# Altium footprint library ARM_PCB.PcbLib: 23 footprints (part 1 of 2)
Each footprint in its own frame and in the unit in brackets; x right, y up, seen from the top. Pads: shape width x height; smd on the part's side, far side on the other; paste and mask are expansions set on the pad; w line width, h text height; cw(c..) or ccw(c..) is an arc to the next point about the centre after c.
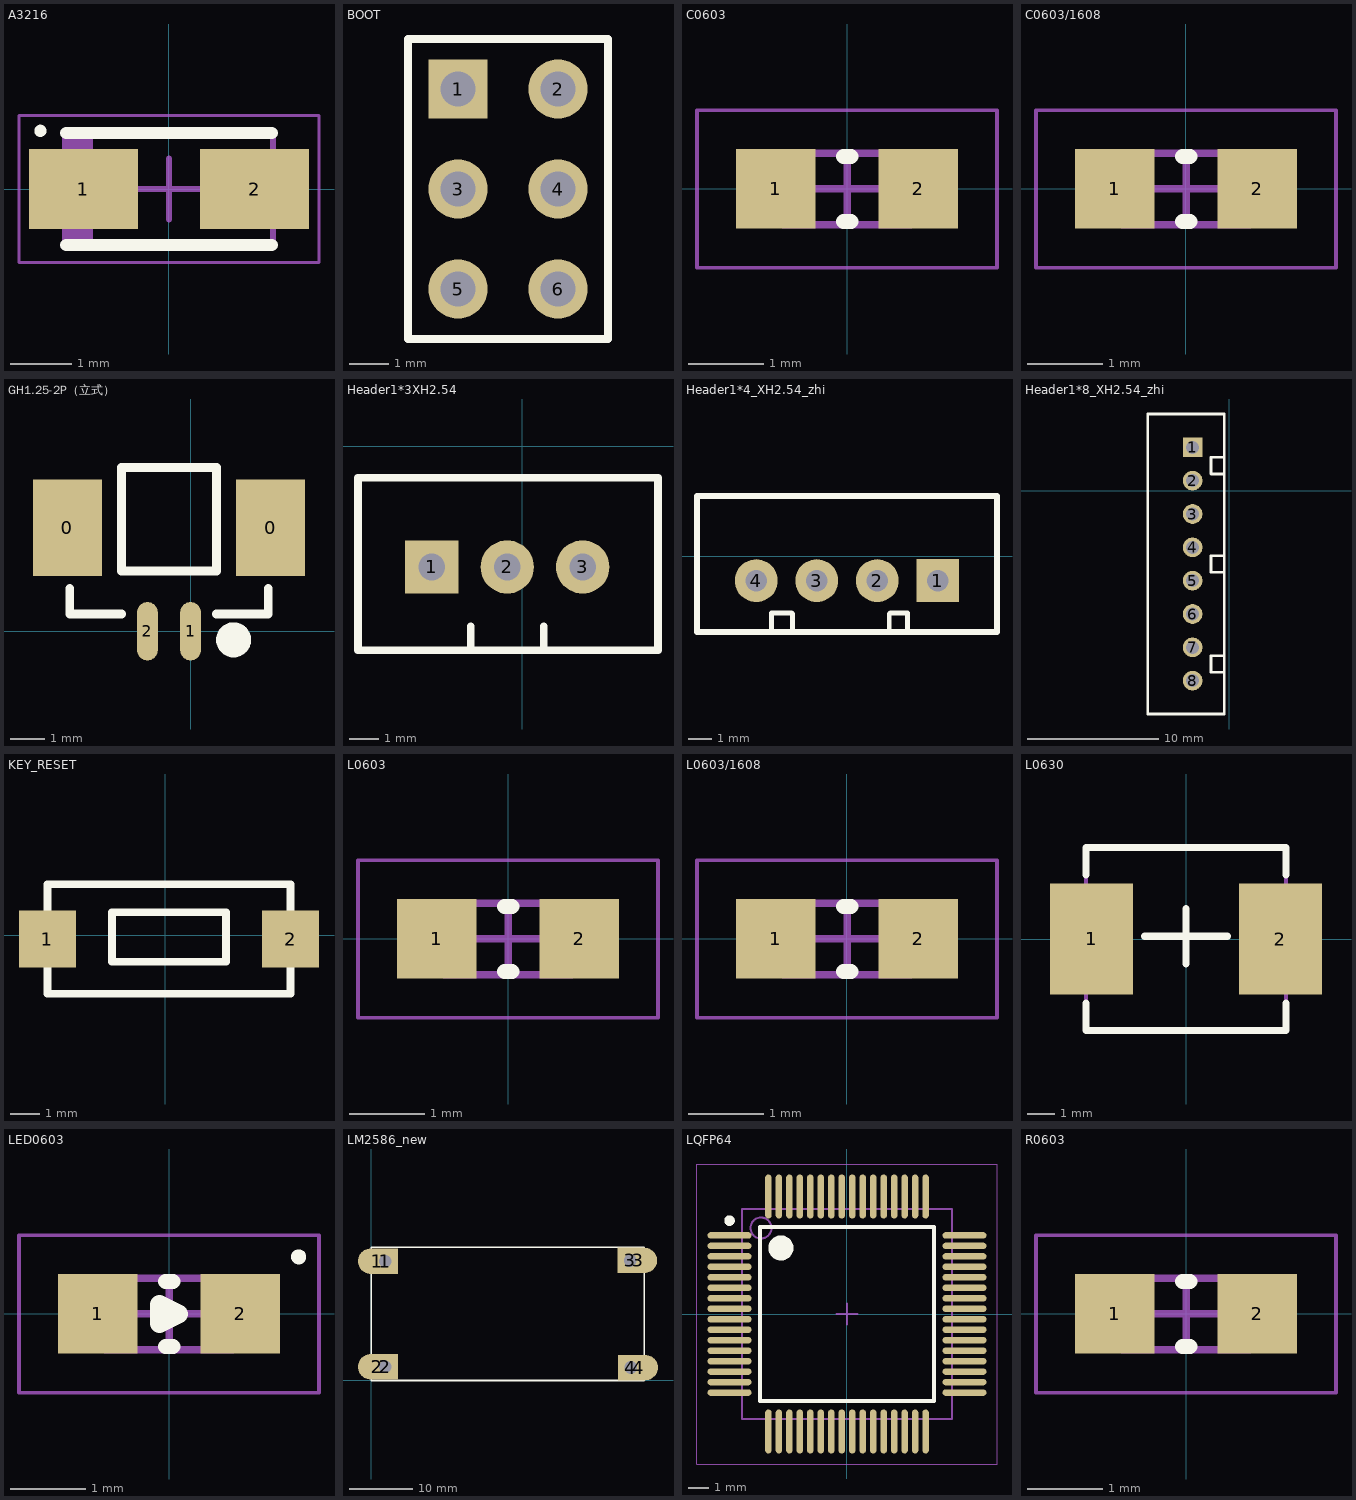
[diagram p0: the footprints below, top view; thin cyan lines are the x and y axes]

## A3216 [mil]
pads (2):
  rect 70x51.18 smd: 1(-55,0) 2(55,0)
Top Overlay:
  circle w3.94: c-82.68,37.4 r1.97
  lines w7.87: -66,-36 66,-36 ; -66,36 66,36
Mechanical 13:
  rectangle: -66.93,-35.43 -48.92,35.43
  lines w3.94: -66.93,-35.43 66.93,-35.43 66.93,35.43 -66.93,35.43 -66.93,-35.43
Mechanical 15:
  lines w1.97: -96.46,-47.24 96.46,-47.24 96.46,47.24 -96.46,47.24 -96.46,-47.24
  lines w3.94: -19.68,0 19.69,0 ; 0,-19.68 0,19.69
3D body: height 70.87, standoff 0, extent -66.93,-35.43 66.93,35.43

## BOOT [mm]
pads (6):
  rect 1.5x1.5 hole 0.9: 1(3.81,-2.667)
  round 1.5 hole 0.9: 2(6.35,-2.667) 3(3.81,-5.207) 4(6.35,-5.207) 5(3.81,-7.747) 6(6.35,-7.747)
Top Overlay:
  lines w0.2: 2.54,-9.017 2.54,-1.397 7.62,-1.397 7.62,-9.017 2.54,-9.017
3D body "User Library-HEADER, 2X3, 2_54MM X 2_54MM PITCH, VERT, TH.STEP": height 8.38, standoff -3.81, extent 2.54,-9.017 7.62,-1.397

## C0603 [mm]
pads (2):
  rect 1.06x1.06 smd: 1(-0.95,0) 2(0.95,0)
Top Overlay:
  lines w0.2: -0.05,-0.43 0.05,-0.43 ; -0.05,0.43 0.05,0.43
Mechanical 13:
  lines w0.1: -0.85,-0.475 -0.85,0.475 0.85,0.475 0.85,-0.475 -0.85,-0.475
Mechanical 15:
  lines w0.05: -2,-1.05 -2,1.05 2,1.05 2,-1.05 -2,-1.05
  lines w0.1: -0.475,0 0.475,0 ; 0,-0.475 0,0.475
3D body: height 0.95, standoff 0, extent -0.55,-0.475 0.55,0.475
3D body: height 0.95, standoff 0, extent -0.85,-0.475 -0.55,0.475
3D body: height 0.95, standoff 0, extent 0.55,-0.475 0.85,0.475

## C0603/1608 [mm]
pads (2):
  rect 1.06x1.06 smd: 1(-0.95,0) 2(0.95,0)
Top Overlay:
  lines w0.2: -0.05,-0.43 0.05,-0.43 ; -0.05,0.43 0.05,0.43
Mechanical 13:
  lines w0.1: -0.85,-0.475 0.85,-0.475 0.85,0.475 -0.85,0.475 -0.85,-0.475
Mechanical 15:
  lines w0.05: -2,-1.05 2,-1.05 2,1.05 -2,1.05 -2,-1.05
  lines w0.1: -0.475,0 0.475,0 ; 0,-0.475 0,0.475
3D body: height 0.95, standoff 0, extent 0.55,-0.475 0.85,0.475
3D body: height 0.95, standoff 0, extent -0.85,-0.475 -0.55,0.475
3D body "Capacitor 0603 SMD.step": height 0.89, standoff -0.01, extent -1.287,-0.467 1.313,0.533

## GH1.25-2P（立式） [mm]
pads (4):
  rect 2x2.8 smd: 0(-3.575,3) 0(2.325,3)
  oval 0.6x1.7 smd: 1(0,0) 2(-1.25,0)
Top Overlay:
  circle w0.508: c1.25,-0.25 r0.254
  lines w0.254: -3.5,1.25 -3.5,0.5 -2,0.5 ; 0.75,0.5 2.25,0.5 2.25,1.25 ; -2,1.75 -2,4.75 0.75,4.75 0.75,1.75 -2,1.75
3D body "SMD_2_1.25.step": height 4.7, standoff 0, extent -4.45,0.15 3.2,4.35

## Header1*3XH2.54 [mm]
pads (3):
  rect 1.8x1.8 hole 0.9: 1(-3.048,-4.064)
  round 1.8 hole 0.9: 2(-0.508,-4.064) 3(2.032,-4.064)
Top Overlay:
  lines w0.254: -1.738,-6.864 -1.738,-6.064 ; 0.722,-6.864 0.722,-6.064 ; -5.538,-6.864 -5.538,-1.064 4.572,-1.064 4.572,-6.864 -5.538,-6.864
3D body "SW3dPS-XH-A-1.STEP": height 7, standoff -3.4, extent -5.458,-6.735 4.442,-0.635

## Header1*4_XH2.54_zhi [mm]
pads (4):
  rect 1.8x1.8 hole 0.9: 1(12.954,-1.016)
  round 1.8 hole 0.9: 2(10.414,-1.016) 3(7.874,-1.016) 4(5.334,-1.016)
Top Overlay:
  lines w0.2: 5.969,-3.175 5.969,-2.375 6.82,-2.375 6.858,-2.413 6.858,-3.048 ; 10.922,-3.175 10.922,-2.413 10.96,-2.375 11.684,-2.375 11.684,-3.175
  lines w0.254: 2.844,-3.175 2.844,2.54 15.444,2.54 15.444,-3.175 2.844,-3.175
3D body "SW3dPS-jst-b4b-xh-a-1.STEP": height 7, standoff -3.4, extent 2.967,-3.256 15.367,2.494

## Header1*8_XH2.54_zhi [mm]
pads (8):
  rect 1.5x1.5 hole 1: 1(-2.794,3.302)
  round 1.5 hole 1: 2(-2.794,0.762) 3(-2.794,-1.778) 4(-2.794,-4.318) 5(-2.794,-6.858) 6(-2.794,-9.398) 7(-2.794,-11.938) 8(-2.794,-14.478)
Top Overlay:
  lines w0.2: -6.223,-17.018 -5.588,-17.018 -0.381,-17.018 ; -6.096,-17.018 -6.223,-16.891 -6.223,5.842 -5.588,5.842 -0.381,5.842 -0.381,-16.891 ; -0.381,-13.843 -1.397,-13.843 -1.397,-12.573 -0.381,-12.573 ; -0.381,-6.223 -1.397,-6.223 -1.397,-4.953 -0.381,-4.953 ; -0.381,1.27 -1.397,1.27 -1.397,1.524 -1.397,2.54 -0.381,2.54
3D body "User Library-B8B-XH-A.STEP": height 7, standoff -3.4, extent -6.131,-16.788 -0.381,5.612

## KEY_RESET [mil]
pads (2):
  rect 75x75 smd: 1(-155,-5) 2(165,-5)
Top Overlay:
  lines w10: -155,-5 -155,67 ; -155,67 -75,67 85,67 165,67 165,-77 -155,-77 -155,67 ; -70,-35 -70,30 80,30 80,-35 -70,-35
3D body: height 98.43, standoff 0, extent -70,-35 80,30
3D body: height 90.55, standoff 0, extent -155,-75 165,65
3D body: height 19.68, standoff 0, extent 145,-20 185,20
3D body: height 19.68, standoff 0, extent -175,-25 -135,15

## L0603 [mm]
pads (2):
  rect 1.06x1.06 smd: 1(-0.95,0) 2(0.95,0)
Top Overlay:
  lines w0.2: -0.05,-0.43 0.05,-0.43 ; -0.05,0.43 0.05,0.43
Mechanical 13:
  lines w0.1: -0.85,-0.475 -0.85,0.475 0.85,0.475 0.85,-0.475 -0.85,-0.475
Mechanical 15:
  lines w0.05: -2,-1.05 -2,1.05 2,1.05 2,-1.05 -2,-1.05
  lines w0.1: -0.475,0 0.475,0 ; 0,-0.475 0,0.475
3D body: height 0.95, standoff 0, extent -0.55,-0.475 0.55,0.475
3D body: height 0.95, standoff 0, extent -0.85,-0.475 -0.55,0.475
3D body: height 0.95, standoff 0, extent 0.55,-0.475 0.85,0.475

## L0603/1608 [mm]
pads (2):
  rect 1.06x1.06 smd: 1(-0.95,0) 2(0.95,0)
Top Overlay:
  lines w0.2: -0.05,-0.43 0.05,-0.43 ; -0.05,0.43 0.05,0.43
Mechanical 13:
  lines w0.1: -0.85,-0.475 -0.85,0.475 0.85,0.475 0.85,-0.475 -0.85,-0.475
Mechanical 15:
  lines w0.05: -2,-1.05 -2,1.05 2,1.05 2,-1.05 -2,-1.05
  lines w0.1: -0.475,0 0.475,0 ; 0,-0.475 0,0.475
3D body: height 1, standoff 0, extent -0.9,-0.5 0.9,0.5
3D body: height 0.95, standoff 0, extent -0.85,-0.475 -0.55,0.475
3D body: height 0.95, standoff 0, extent 0.55,-0.475 0.85,0.475

## L0630 [mm]
pads (2):
  rect 3x4 smd: 1(-3.4,0) 2(3.4,0)
Top Overlay:
  lines w0.254: -3.6,-2.3 -3.6,-3.3 3.6,-3.3 3.6,-2.3 ; -3.6,2.3 -3.6,3.3 3.6,3.3 3.6,2.3 ; -1.5,0.1 1.5,0.1 ; 0,-0.9 0,1.1
Mechanical 13:
  lines w0.127: -3.6,-3.3 3.6,-3.3 3.6,3.3 -3.6,3.3 -3.6,-3.3
3D body: height 3, standoff 0, extent -3.6,-3.3 3.6,3.3

## LED0603 [mm]
pads (2):
  rect 1.06x1.06 smd: 1(-0.95,0) 2(0.95,0)
Top Overlay:
  circle w0.1: c1.728,0.762 r0.05
  lines w0.2: -0.05,-0.43 0.05,-0.43 ; -0.05,0.43 0.05,0.43
  lines w0.254: -0.127,-0.127 0.127,0 -0.127,0.127 -0.127,-0.127
Mechanical 13:
  lines w0.1: -0.85,-0.475 0.85,-0.475 0.85,0.475 -0.85,0.475 -0.85,-0.475
Mechanical 15:
  lines w0.05: -2,-1.05 2,-1.05 2,1.05 -2,1.05 -2,-1.05
  lines w0.1: -0.475,0 0.475,0 ; 0,-0.475 0,0.475
3D body: height 0.95, standoff 0, extent 0.55,-0.475 0.85,0.475
3D body: height 0.95, standoff 0, extent -0.85,-0.475 -0.55,0.475
3D body: height 0.95, standoff 0, extent -0.55,-0.475 0.55,0.475

## LM2586_new [mm]
pads (8):
  oval 6x4 smd: 1(0.889,18.796) 2(0.889,2.159) 3(42.037,18.923) 4(42.164,2.032)
  rect 4x4 hole 2: 1(2.159,18.796) 2(2.159,2.159) 3(40.767,18.923) 4(40.894,2.032)
Top Overlay:
  lines w0.254: 0,0 43,0 43,21 0,21 0,0
3D body: height 1.6, standoff 0, extent 0,0 42.799,20.955

## LQFP64 [mm]
pads (64):
  oval 2.1x0.3 smd: 1(-5.6,3.75) 2(-5.6,3.25) 3(-5.6,2.75) 4(-5.6,2.25) 5(-5.6,1.75) 6(-5.6,1.25) 7(-5.6,0.75) 8(-5.6,0.25) 9(-5.6,-0.25) 10(-5.6,-0.75) 11(-5.6,-1.25) 12(-5.6,-1.75) 13(-5.6,-2.25) 14(-5.6,-2.75) 15(-5.6,-3.25) 16(-5.6,-3.75) 33(5.6,-3.75) 34(5.6,-3.25) 35(5.6,-2.75) 36(5.6,-2.25) 37(5.6,-1.75) 38(5.6,-1.25) 39(5.6,-0.75) 40(5.6,-0.25) 41(5.6,0.25) 42(5.6,0.75) 43(5.6,1.25) 44(5.6,1.75) 45(5.6,2.25) 46(5.6,2.75) 47(5.6,3.25) 48(5.6,3.75)
  oval 0.3x2.1 smd: 17(-3.75,-5.6) 18(-3.25,-5.6) 19(-2.75,-5.6) 20(-2.25,-5.6) 21(-1.75,-5.6) 22(-1.25,-5.6) 23(-0.75,-5.6) 24(-0.25,-5.6) 25(0.25,-5.6) 26(0.75,-5.6) 27(1.25,-5.6) 28(1.75,-5.6) 29(2.25,-5.6) 30(2.75,-5.6) 31(3.25,-5.6) 32(3.75,-5.6) 49(3.75,5.6) 50(3.25,5.6) 51(2.75,5.6) 52(2.25,5.6) 53(1.75,5.6) 54(1.25,5.6) 55(0.75,5.6) 56(0.25,5.6) 57(-0.25,5.6) 58(-0.75,5.6) 59(-1.25,5.6) 60(-1.75,5.6) 61(-2.25,5.6) 62(-2.75,5.6) 63(-3.25,5.6) 64(-3.75,5.6)
Top Overlay:
  circle w0.25: c-5.6,4.45 r0.125
  circle w0.6: c-3.15,3.15 r0.3
  lines w0.2: -4.15,-4.15 -4.15,4.15 4.15,4.15 4.15,-4.15 -4.15,-4.15
Mechanical 13:
  circle w0.1: c-4.1,4.1 r0.5
  lines w0.1: -5,-5 -5,5 5,5 5,-5 -5,-5
Mechanical 15:
  lines w0.05: -7.15,-7.15 -7.15,7.15 7.15,7.15 7.15,-7.15 -7.15,-7.15
  lines w0.1: -0.5,0 0.5,0 ; 0,-0.5 0,0.5
3D body "lqfp-64.stp": height 1.6, standoff -0.02, extent -6,-6 6,6

## R0603 [mm]
pads (2):
  rect 1.06x1.06 smd: 1(-0.95,0) 2(0.95,0)
Top Overlay:
  lines w0.2: -0.05,-0.43 0.05,-0.43 ; -0.05,0.43 0.05,0.43
Mechanical 13:
  lines w0.1: -0.85,-0.475 -0.85,0.475 0.85,0.475 0.85,-0.475 -0.85,-0.475
Mechanical 15:
  lines w0.05: -2,-1.05 -2,1.05 2,1.05 2,-1.05 -2,-1.05
  lines w0.1: -0.475,0 0.475,0 ; 0,-0.475 0,0.475
3D body: height 0.95, standoff 0, extent -0.55,-0.475 0.55,0.475
3D body: height 0.95, standoff 0, extent -0.85,-0.475 -0.55,0.475
3D body: height 0.95, standoff 0, extent 0.55,-0.475 0.85,0.475